# Altium schematic symbol library 501876-1640.SchLib: 1 symbol
Pins are listed as number, name and electrical type; pins without a type are passive.

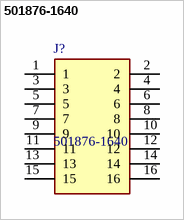
[diagram p0: symbol 501876-1640]

## 501876-1640
designator J?
Headers & Wire Housings IGRID 16P RA HDR DUAL ROW; Manufacturer_Name: Molex; Geometry.Height: 8.3mm; Manufacturer_Part_Number: 501876-1640; Mouser Part Number: 538-501876-1640; Mouser Price/Stock: https://www.mouser.co.uk/ProductDetail/Molex/501876-1640?qs=AcmJtBVhzkQu5SG65mNYcQ%3D%3D; Arrow Part Number: *; Arrow Price/Stock: *; Datasheet Link: https://www.molex.com/pdm_docs/sd/5018761640_sd.pdf
footprint SHDRRA16W50P200_2X8_1800X1450X830P
pins: 1, 2, 3, 4, 5, 6, 7, 8, 9, 10, 11, 12, 13, 14, 15, 16